# Altium integrated library Maxim Analog Filters.IntLib: 555 symbols (part 13 of 26)
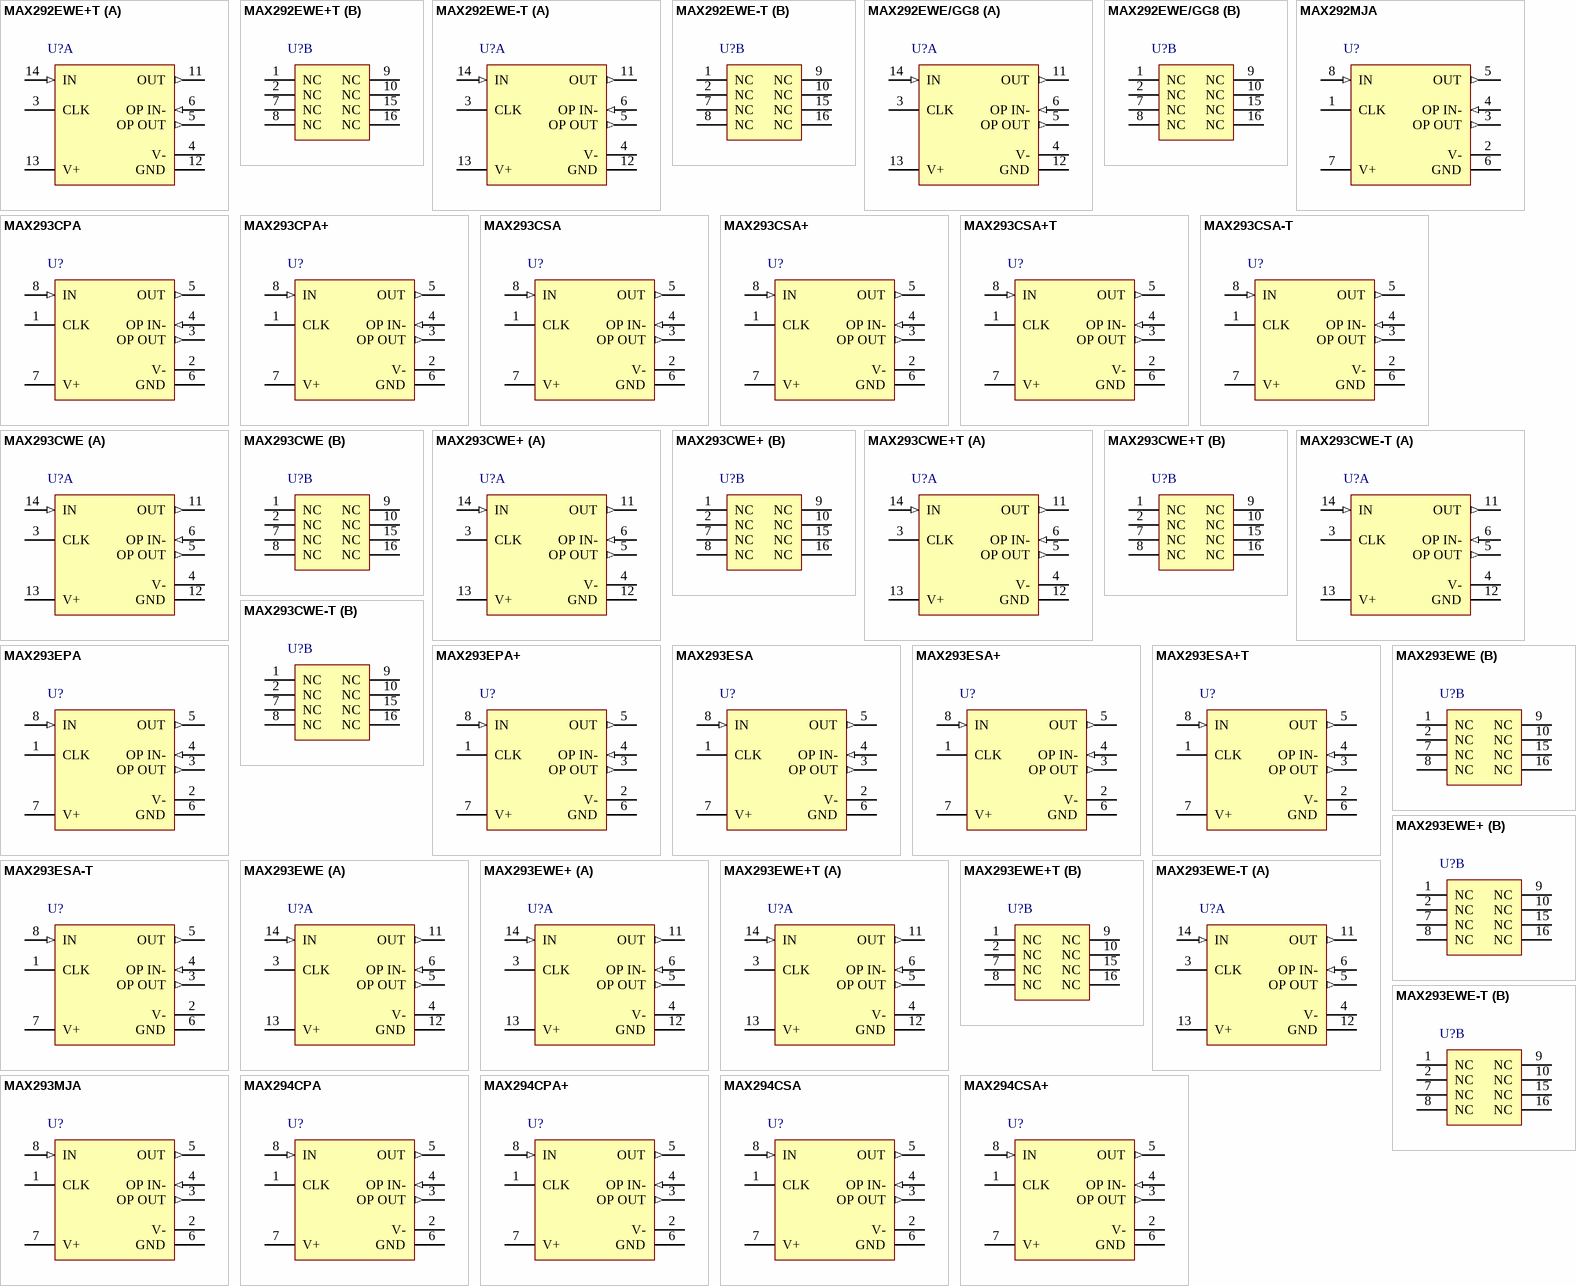
[diagram p29: symbols MAX292EWE+T to MAX294CSA+]

## MAX293CWE-T
designator U?
8th-Order Switched Capacitor Lowpass Filter, Elliptic, 1.5 Transition Ratio, 0 to 70 degC, 16-Pin SOIC (W16-1), Tape and Reel; Generic Part Number: MAX293; PartNumber: MAX293CWE-T; Filter Sections: 1; Order Per Filter Section: 8; Program Method: Clock; DatasheetVersion: Rev. 2; PackageVersion: Rev. F, 10/2012; PackageReference: W16-1; PackageDescription: 16-Pin Small-Outline IC, Wide (0.3in) (W16-1), Body 10.3 x 7.5 mm, Pitch 1.27 mm; Supplier 1: Mouser; Supplier Part Number 1: N/A; Filter Characteristic: Elliptic; Filter Class: Switched Cap; Filter Type: Lowpass; Packing: Tape and Reel; Mounting Technology: Surface Mount; Code_JEDEC: MS013; ComponentLink1Description: Manufacturer URL; ComponentLink1URL: http://www.maximintegrated.com/; ComponentLink2Description: Datasheet; ComponentLink2URL: http://datasheets.maximintegrated.com/en/ds/MAX293-MAX297.pdf; ComponentLink3Description: Package Specification; ComponentLink3URL: http://pdfserv.maximintegrated.com/package_dwgs/21-0042.PDF
footprint MAXM-W16-1_N (SOIC, 16-Leads, Body 10.3x7.5mm, Pitch 1.27mm, IPC Medium Density)
footprint MAXM-W16-1_L (SOIC, 16-Leads, Body 10.3x7.5mm, Pitch 1.27mm, IPC High Density)
footprint MAXM-W16-1_M (SOIC, 16-Leads, Body 10.3x7.5mm, Pitch 1.27mm, IPC Low Density)
part A pins: 3 CLK "Clock Input. Use internal or external clock.", 4 V- (power) "Negative Supply pin. Dual supplies: -2.375V to -5.500V. Single supplies: V- = 0V.", 5 OP OUT (out) "Uncommitted Op-Amp Output", 6 OP IN- (in) "Inverting Input to the uncommitted op amp. The noninverting op amp is internally tied to ground.", 11 OUT (out) "Filter Output", 12 GND (power) "Ground. In single-supply operation, GND must be biased to the mid-supply voltage level", 13 V+ (power) "Positive Supply pin. Dual supplies:+2.375V to +5.500V. Single supplies: +4.75V to +11.0V.", 14 IN (in) "Filter Input"
part B pins: 1 NC "No Connect", 2 NC "No Connect", 7 NC "No Connect", 8 NC "No Connect", 9 NC "No Connect", 10 NC "No Connect", 15 NC "No Connect", 16 NC "No Connect"

## MAX293EPA
designator U?
8th-Order Switched Capacitor Lowpass Filter, Elliptic, 1.5 Transition Ratio, -40 to 85 degC, 8-Pin DIP (P8-2); Generic Part Number: MAX293; PartNumber: MAX293EPA; Filter Sections: 1; Order Per Filter Section: 8; Program Method: Clock; DatasheetVersion: Rev. 2; PackageVersion: Rev. E, 04/2011; PackageReference: P8-2; PackageDescription: 8-Pin Plastic Dual-In-Line, Narrow (0.3in) (P8-2), Body 9.375 x 6.985 mm, Pitch 2.54 mm; Supplier 1: Mouser; Supplier Part Number 1: N/A; Filter Characteristic: Elliptic; Filter Class: Switched Cap; Filter Type: Lowpass; Mounting Technology: Through Hole; Code_JEDEC: MS001-XX; ComponentLink1Description: Manufacturer URL; ComponentLink1URL: http://www.maximintegrated.com/; ComponentLink2Description: Datasheet; ComponentLink2URL: http://datasheets.maximintegrated.com/en/ds/MAX293-MAX297.pdf; ComponentLink3Description: Package Specification; ComponentLink3URL: http://pdfserv.maximintegrated.com/package_dwgs/21-0043.PDF
footprint MAXM-P8-2 (DIP, 8-Leads, Body 9.375x6.985mm, Pitch 2.54mm)
pins: 1 CLK "Clock Input. Use internal or external clock.", 2 V- (power) "Negative Supply pin. Dual supplies: -2.375V to -5.5V. Single supplies: V- = 0V.", 3 OP OUT (out) "Uncommitted Op-Amp Output", 4 OP IN- (in) "Inverting Input to the uncommitted op amp. The noninverting op amp is internally tied to ground.", 5 OUT (out) "Filter Output", 6 GND (power) "Ground. In single-supply operation, GND must be biased to the mid-supply voltage level.", 7 V+ (power) "Positive Supply pin. Dual supplies: +2.375V to +5.5V. Single supplies: +4.75V to +11.0V.", 8 IN (in) "Filter Input"

## MAX293EPA+
designator U?
8th-Order Switched Capacitor Lowpass Filter, Elliptic, 1.5 Transition Ratio, -40 to 85 degC, 8-Pin DIP (P8+2), Pb-Free; Generic Part Number: MAX293; PartNumber: MAX293EPA+; Filter Sections: 1; Order Per Filter Section: 8; Program Method: Clock; DatasheetVersion: Rev. 2; PackageVersion: Rev. E, 04/2011; PackageReference: P8+2; PackageDescription: 8-Pin Plastic Dual-In-Line, Narrow (0.3in) (P8+2), Body 9.375 x 6.985 mm, Pitch 2.54 mm; Supplier 1: Digi-Key; Supplier Part Number 1: MAX293EPA+-ND; Supplier 2: Newark; Supplier Part Number 2: 67K4541; Supplier 3: Mouser; Supplier Part Number 3: 700-MAX293EPA; Filter Characteristic: Elliptic; Filter Class: Switched Cap; Filter Type: Lowpass; RoHS: Pb-Free; Mounting Technology: Through Hole; Code_JEDEC: MS001-XX; ComponentLink1Description: Manufacturer URL; ComponentLink1URL: http://www.maximintegrated.com/; ComponentLink2Description: Datasheet; ComponentLink2URL: http://datasheets.maximintegrated.com/en/ds/MAX293-MAX297.pdf; ComponentLink3Description: Package Specification; ComponentLink3URL: http://pdfserv.maximintegrated.com/package_dwgs/21-0043.PDF
footprint MAXM-P8+2 (DIP, 8-Leads, Body 9.375x6.985mm, Pitch 2.54mm)
pins: 1 CLK "Clock Input. Use internal or external clock.", 2 V- (power) "Negative Supply pin. Dual supplies: -2.375V to -5.5V. Single supplies: V- = 0V.", 3 OP OUT (out) "Uncommitted Op-Amp Output", 4 OP IN- (in) "Inverting Input to the uncommitted op amp. The noninverting op amp is internally tied to ground.", 5 OUT (out) "Filter Output", 6 GND (power) "Ground. In single-supply operation, GND must be biased to the mid-supply voltage level.", 7 V+ (power) "Positive Supply pin. Dual supplies: +2.375V to +5.5V. Single supplies: +4.75V to +11.0V.", 8 IN (in) "Filter Input"

## MAX293ESA
designator U?
8th-Order Switched Capacitor Lowpass Filter, Elliptic, 1.5 Transition Ratio, -40 to 85 degC, 8-Pin SOIC (S8-5); Generic Part Number: MAX293; PartNumber: MAX293ESA; Filter Sections: 1; Order Per Filter Section: 8; Program Method: Clock; DatasheetVersion: Rev. 2; PackageVersion: Rev. D, 10/2012; PackageReference: S8-5; PackageDescription: 8-Pin Small-Outline IC, Narrow (0.15in) (S8-5), Body 4.90 x 3.90 mm, Pitch 1.27 mm; Supplier 1: Mouser; Supplier Part Number 1: N/A; Filter Characteristic: Elliptic; Filter Class: Switched Cap; Filter Type: Lowpass; Mounting Technology: Surface Mount; Code_JEDEC: MS012; ComponentLink1Description: Manufacturer URL; ComponentLink1URL: http://www.maximintegrated.com/; ComponentLink2Description: Datasheet; ComponentLink2URL: http://datasheets.maximintegrated.com/en/ds/MAX293-MAX297.pdf; ComponentLink3Description: Package Specification; ComponentLink3URL: http://pdfserv.maximintegrated.com/package_dwgs/21-0041.PDF
footprint MAXM-S8-5_N (SOIC, 8-Leads, Body 4.9x3.9mm, Pitch 1.27mm, IPC Medium Density)
footprint MAXM-S8-5_L (SOIC, 8-Leads, Body 4.9x3.9mm, Pitch 1.27mm, IPC High Density)
footprint MAXM-S8-5_M (SOIC, 8-Leads, Body 4.9x3.9mm, Pitch 1.27mm, IPC Low Density)
pins: 1 CLK "Clock Input. Use internal or external clock.", 2 V- (power) "Negative Supply pin. Dual supplies: -2.375V to -5.500V. Single supplies: V- = 0V.", 3 OP OUT (out) "Uncommitted Op-Amp Output", 4 OP IN- (in) "Inverting Input to the uncommitted op amp. The noninverting op amp is internally tied to ground.", 5 OUT (out) "Filter Output", 6 GND (power) "Ground. In single-supply operation, GND must be biased to the mid-supply voltage level.", 7 V+ (power) "Positive Supply pin. Dual supplies: +2.375V to +5.500V. Single supplies: +4.75V to +11.0V.", 8 IN (in) "Filter Input"

## MAX293ESA+
designator U?
8th-Order Switched Capacitor Lowpass Filter, Elliptic, 1.5 Transition Ratio, -40 to 85 degC, 8-Pin SOIC (S8+5), Pb-Free; Generic Part Number: MAX293; PartNumber: MAX293ESA+; Filter Sections: 1; Order Per Filter Section: 8; Program Method: Clock; DatasheetVersion: Rev. 2; PackageVersion: Rev. D, 10/2012; PackageReference: S8+5; PackageDescription: 8-Pin Small-Outline IC, Narrow (0.15in) (S8+5), Body 4.90 x 3.90 mm, Pitch 1.27 mm; Supplier 1: Digi-Key; Supplier Part Number 1: MAX293ESA+-ND; Supplier 2: Mouser; Supplier Part Number 2: 700-MAX293ESA; Filter Characteristic: Elliptic; Filter Class: Switched Cap; Filter Type: Lowpass; RoHS: Pb-Free; Mounting Technology: Surface Mount; Code_JEDEC: MS012; ComponentLink1Description: Manufacturer URL; ComponentLink1URL: http://www.maximintegrated.com/; ComponentLink2Description: Datasheet; ComponentLink2URL: http://datasheets.maximintegrated.com/en/ds/MAX293-MAX297.pdf; ComponentLink3Description: Package Specification; ComponentLink3URL: http://pdfserv.maximintegrated.com/package_dwgs/21-0041.PDF
footprint MAXM-S8+5_N (SOIC, 8-Leads, Body 4.90x3.90mm, Pitch 1.27mm, IPC Medium Density)
footprint MAXM-S8+5_L (SOIC, 8-Leads, Body 4.90x3.90mm, Pitch 1.27mm, IPC High Density)
footprint MAXM-S8+5_M (SOIC, 8-Leads, Body 4.90x3.90mm, Pitch 1.27mm, IPC Low Density)
pins: 1 CLK "Clock Input. Use internal or external clock.", 2 V- (power) "Negative Supply pin. Dual supplies: -2.375V to -5.500V. Single supplies: V- = 0V.", 3 OP OUT (out) "Uncommitted Op-Amp Output", 4 OP IN- (in) "Inverting Input to the uncommitted op amp. The noninverting op amp is internally tied to ground.", 5 OUT (out) "Filter Output", 6 GND (power) "Ground. In single-supply operation, GND must be biased to the mid-supply voltage level.", 7 V+ (power) "Positive Supply pin. Dual supplies: +2.375V to +5.500V. Single supplies: +4.75V to +11.0V.", 8 IN (in) "Filter Input"

## MAX293ESA+T
designator U?
8th-Order Switched Capacitor Lowpass Filter, Elliptic, 1.5 Transition Ratio, -40 to 85 degC, 8-Pin SOIC (S8+5), Pb-Free, Tape and Reel; Generic Part Number: MAX293; PartNumber: MAX293ESA+T; Filter Sections: 1; Order Per Filter Section: 8; Program Method: Clock; DatasheetVersion: Rev. 2; PackageVersion: Rev. D, 10/2012; PackageReference: S8+5; PackageDescription: 8-Pin Small-Outline IC, Narrow (0.15in) (S8+5), Body 4.90 x 3.90 mm, Pitch 1.27 mm; Supplier 1: Digi-Key; Supplier Part Number 1: MAX293ESA+T-ND; Supplier 2: Mouser; Supplier Part Number 2: 700-MAX293ESAT; Filter Characteristic: Elliptic; Filter Class: Switched Cap; Filter Type: Lowpass; Packing: Tape and Reel; RoHS: Pb-Free; Mounting Technology: Surface Mount; Code_JEDEC: MS012; ComponentLink1Description: Manufacturer URL; ComponentLink1URL: http://www.maximintegrated.com/; ComponentLink2Description: Datasheet; ComponentLink2URL: http://datasheets.maximintegrated.com/en/ds/MAX293-MAX297.pdf; ComponentLink3Description: Package Specification; ComponentLink3URL: http://pdfserv.maximintegrated.com/package_dwgs/21-0041.PDF
footprint MAXM-S8+5_N (SOIC, 8-Leads, Body 4.90x3.90mm, Pitch 1.27mm, IPC Medium Density)
footprint MAXM-S8+5_L (SOIC, 8-Leads, Body 4.90x3.90mm, Pitch 1.27mm, IPC High Density)
footprint MAXM-S8+5_M (SOIC, 8-Leads, Body 4.90x3.90mm, Pitch 1.27mm, IPC Low Density)
pins: 1 CLK "Clock Input. Use internal or external clock.", 2 V- (power) "Negative Supply pin. Dual supplies: -2.375V to -5.500V. Single supplies: V- = 0V.", 3 OP OUT (out) "Uncommitted Op-Amp Output", 4 OP IN- (in) "Inverting Input to the uncommitted op amp. The noninverting op amp is internally tied to ground.", 5 OUT (out) "Filter Output", 6 GND (power) "Ground. In single-supply operation, GND must be biased to the mid-supply voltage level.", 7 V+ (power) "Positive Supply pin. Dual supplies: +2.375V to +5.500V. Single supplies: +4.75V to +11.0V.", 8 IN (in) "Filter Input"

## MAX293ESA-T
designator U?
8th-Order Switched Capacitor Lowpass Filter, Elliptic, 1.5 Transition Ratio, -40 to 85 degC, 8-Pin SOIC (S8-5), Tape and Reel; Generic Part Number: MAX293; PartNumber: MAX293ESA-T; Filter Sections: 1; Order Per Filter Section: 8; Program Method: Clock; DatasheetVersion: Rev. 2; PackageVersion: Rev. D, 10/2012; PackageReference: S8-5; PackageDescription: 8-Pin Small-Outline IC, Narrow (0.15in) (S8-5), Body 4.90 x 3.90 mm, Pitch 1.27 mm; Supplier 1: Mouser; Supplier Part Number 1: N/A; Filter Characteristic: Elliptic; Filter Class: Switched Cap; Filter Type: Lowpass; Packing: Tape and Reel; Mounting Technology: Surface Mount; Code_JEDEC: MS012; ComponentLink1Description: Manufacturer URL; ComponentLink1URL: http://www.maximintegrated.com/; ComponentLink2Description: Datasheet; ComponentLink2URL: http://datasheets.maximintegrated.com/en/ds/MAX293-MAX297.pdf; ComponentLink3Description: Package Specification; ComponentLink3URL: http://pdfserv.maximintegrated.com/package_dwgs/21-0041.PDF
footprint MAXM-S8-5_N (SOIC, 8-Leads, Body 4.9x3.9mm, Pitch 1.27mm, IPC Medium Density)
footprint MAXM-S8-5_L (SOIC, 8-Leads, Body 4.9x3.9mm, Pitch 1.27mm, IPC High Density)
footprint MAXM-S8-5_M (SOIC, 8-Leads, Body 4.9x3.9mm, Pitch 1.27mm, IPC Low Density)
pins: 1 CLK "Clock Input. Use internal or external clock.", 2 V- (power) "Negative Supply pin. Dual supplies: -2.375V to -5.500V. Single supplies: V- = 0V.", 3 OP OUT (out) "Uncommitted Op-Amp Output", 4 OP IN- (in) "Inverting Input to the uncommitted op amp. The noninverting op amp is internally tied to ground.", 5 OUT (out) "Filter Output", 6 GND (power) "Ground. In single-supply operation, GND must be biased to the mid-supply voltage level.", 7 V+ (power) "Positive Supply pin. Dual supplies: +2.375V to +5.500V. Single supplies: +4.75V to +11.0V.", 8 IN (in) "Filter Input"

## MAX293EWE
designator U?
8th-Order Switched Capacitor Lowpass Filter, Elliptic, 1.5 Transition Ratio, -40 to 85 degC, 16-Pin SOIC (W16-1); Generic Part Number: MAX293; PartNumber: MAX293EWE; Filter Sections: 1; Order Per Filter Section: 8; Program Method: Clock; DatasheetVersion: Rev. 2; PackageVersion: Rev. F, 10/2012; PackageReference: W16-1; PackageDescription: 16-Pin Small-Outline IC, Wide (0.3in) (W16-1), Body 10.3 x 7.5 mm, Pitch 1.27 mm; Supplier 1: Mouser; Supplier Part Number 1: N/A; Filter Characteristic: Elliptic; Filter Class: Switched Cap; Filter Type: Lowpass; Mounting Technology: Surface Mount; Code_JEDEC: MS013; ComponentLink1Description: Manufacturer URL; ComponentLink1URL: http://www.maximintegrated.com/; ComponentLink2Description: Datasheet; ComponentLink2URL: http://datasheets.maximintegrated.com/en/ds/MAX293-MAX297.pdf; ComponentLink3Description: Package Specification; ComponentLink3URL: http://pdfserv.maximintegrated.com/package_dwgs/21-0042.PDF
footprint MAXM-W16-1_N (SOIC, 16-Leads, Body 10.3x7.5mm, Pitch 1.27mm, IPC Medium Density)
footprint MAXM-W16-1_L (SOIC, 16-Leads, Body 10.3x7.5mm, Pitch 1.27mm, IPC High Density)
footprint MAXM-W16-1_M (SOIC, 16-Leads, Body 10.3x7.5mm, Pitch 1.27mm, IPC Low Density)
part A pins: 3 CLK "Clock Input. Use internal or external clock.", 4 V- (power) "Negative Supply pin. Dual supplies: -2.375V to -5.500V. Single supplies: V- = 0V.", 5 OP OUT (out) "Uncommitted Op-Amp Output", 6 OP IN- (in) "Inverting Input to the uncommitted op amp. The noninverting op amp is internally tied to ground.", 11 OUT (out) "Filter Output", 12 GND (power) "Ground. In single-supply operation, GND must be biased to the mid-supply voltage level", 13 V+ (power) "Positive Supply pin. Dual supplies:+2.375V to +5.500V. Single supplies: +4.75V to +11.0V.", 14 IN (in) "Filter Input"
part B pins: 1 NC "No Connect", 2 NC "No Connect", 7 NC "No Connect", 8 NC "No Connect", 9 NC "No Connect", 10 NC "No Connect", 15 NC "No Connect", 16 NC "No Connect"

## MAX293EWE+
designator U?
8th-Order Switched Capacitor Lowpass Filter, Elliptic, 1.5 Transition Ratio, -40 to 85 degC, 16-Pin SOIC (W16+1), Pb-Free; Generic Part Number: MAX293; PartNumber: MAX293EWE+; Filter Sections: 1; Order Per Filter Section: 8; Program Method: Clock; DatasheetVersion: Rev. 2; PackageVersion: Rev. F, 10/2012; PackageReference: W16+1; PackageDescription: 16-Pin Small-Outline IC, Wide (0.3in) (W16+1), Body 10.3 x 7.5 mm, Pitch 1.27 mm; Supplier 1: Digi-Key; Supplier Part Number 1: MAX293EWE+-ND; Supplier 2: Mouser; Supplier Part Number 2: 700-MAX293EWE; Filter Characteristic: Elliptic; Filter Class: Switched Cap; Filter Type: Lowpass; RoHS: Pb-Free; Mounting Technology: Surface Mount; Code_JEDEC: MS013; ComponentLink1Description: Manufacturer URL; ComponentLink1URL: http://www.maximintegrated.com/; ComponentLink2Description: Datasheet; ComponentLink2URL: http://datasheets.maximintegrated.com/en/ds/MAX293-MAX297.pdf; ComponentLink3Description: Package Specification; ComponentLink3URL: http://pdfserv.maximintegrated.com/package_dwgs/21-0042.PDF
footprint MAXM-W16+1_N (SOIC, 16-Leads, Body 10.3x7.5mm, Pitch 1.27mm, IPC Medium Density)
footprint MAXM-W16+1_L (SOIC, 16-Leads, Body 10.3x7.5mm, Pitch 1.27mm, IPC High Density)
footprint MAXM-W16+1_M (SOIC, 16-Leads, Body 10.3x7.5mm, Pitch 1.27mm, IPC Low Density)
part A pins: 3 CLK "Clock Input. Use internal or external clock.", 4 V- (power) "Negative Supply pin. Dual supplies: -2.375V to -5.500V. Single supplies: V- = 0V.", 5 OP OUT (out) "Uncommitted Op-Amp Output", 6 OP IN- (in) "Inverting Input to the uncommitted op amp. The noninverting op amp is internally tied to ground.", 11 OUT (out) "Filter Output", 12 GND (power) "Ground. In single-supply operation, GND must be biased to the mid-supply voltage level", 13 V+ (power) "Positive Supply pin. Dual supplies:+2.375V to +5.500V. Single supplies: +4.75V to +11.0V.", 14 IN (in) "Filter Input"
part B pins: 1 NC "No Connect", 2 NC "No Connect", 7 NC "No Connect", 8 NC "No Connect", 9 NC "No Connect", 10 NC "No Connect", 15 NC "No Connect", 16 NC "No Connect"

## MAX293EWE+T
designator U?
8th-Order Switched Capacitor Lowpass Filter, Elliptic, 1.5 Transition Ratio, -40 to 85 degC, 16-Pin SOIC (W16+1), Pb-Free, Tape and Reel; Generic Part Number: MAX293; PartNumber: MAX293EWE+T; Filter Sections: 1; Order Per Filter Section: 8; Program Method: Clock; DatasheetVersion: Rev. 2; PackageVersion: Rev. F, 10/2012; PackageReference: W16+1; PackageDescription: 16-Pin Small-Outline IC, Wide (0.3in) (W16+1), Body 10.3 x 7.5 mm, Pitch 1.27 mm; Supplier 1: Digi-Key; Supplier Part Number 1: MAX293EWE+T-ND; Supplier 2: Mouser; Supplier Part Number 2: 700-MAX293EWET; Filter Characteristic: Elliptic; Filter Class: Switched Cap; Filter Type: Lowpass; Packing: Tape and Reel; RoHS: Pb-Free; Mounting Technology: Surface Mount; Code_JEDEC: MS013; ComponentLink1Description: Manufacturer URL; ComponentLink1URL: http://www.maximintegrated.com/; ComponentLink2Description: Datasheet; ComponentLink2URL: http://datasheets.maximintegrated.com/en/ds/MAX293-MAX297.pdf; ComponentLink3Description: Package Specification; ComponentLink3URL: http://pdfserv.maximintegrated.com/package_dwgs/21-0042.PDF
footprint MAXM-W16+1_N (SOIC, 16-Leads, Body 10.3x7.5mm, Pitch 1.27mm, IPC Medium Density)
footprint MAXM-W16+1_L (SOIC, 16-Leads, Body 10.3x7.5mm, Pitch 1.27mm, IPC High Density)
footprint MAXM-W16+1_M (SOIC, 16-Leads, Body 10.3x7.5mm, Pitch 1.27mm, IPC Low Density)
part A pins: 3 CLK "Clock Input. Use internal or external clock.", 4 V- (power) "Negative Supply pin. Dual supplies: -2.375V to -5.500V. Single supplies: V- = 0V.", 5 OP OUT (out) "Uncommitted Op-Amp Output", 6 OP IN- (in) "Inverting Input to the uncommitted op amp. The noninverting op amp is internally tied to ground.", 11 OUT (out) "Filter Output", 12 GND (power) "Ground. In single-supply operation, GND must be biased to the mid-supply voltage level", 13 V+ (power) "Positive Supply pin. Dual supplies:+2.375V to +5.500V. Single supplies: +4.75V to +11.0V.", 14 IN (in) "Filter Input"
part B pins: 1 NC "No Connect", 2 NC "No Connect", 7 NC "No Connect", 8 NC "No Connect", 9 NC "No Connect", 10 NC "No Connect", 15 NC "No Connect", 16 NC "No Connect"

## MAX293EWE-T
designator U?
8th-Order Switched Capacitor Lowpass Filter, Elliptic, 1.5 Transition Ratio, -40 to 85 degC, 16-Pin SOIC (W16-1), Tape and Reel; Generic Part Number: MAX293; PartNumber: MAX293EWE-T; Filter Sections: 1; Order Per Filter Section: 8; Program Method: Clock; DatasheetVersion: Rev. 2; PackageVersion: Rev. F, 10/2012; PackageReference: W16-1; PackageDescription: 16-Pin Small-Outline IC, Wide (0.3in) (W16-1), Body 10.3 x 7.5 mm, Pitch 1.27 mm; Supplier 1: Mouser; Supplier Part Number 1: N/A; Filter Characteristic: Elliptic; Filter Class: Switched Cap; Filter Type: Lowpass; Packing: Tape and Reel; Mounting Technology: Surface Mount; Code_JEDEC: MS013; ComponentLink1Description: Manufacturer URL; ComponentLink1URL: http://www.maximintegrated.com/; ComponentLink2Description: Datasheet; ComponentLink2URL: http://datasheets.maximintegrated.com/en/ds/MAX293-MAX297.pdf; ComponentLink3Description: Package Specification; ComponentLink3URL: http://pdfserv.maximintegrated.com/package_dwgs/21-0042.PDF
footprint MAXM-W16-1_N (SOIC, 16-Leads, Body 10.3x7.5mm, Pitch 1.27mm, IPC Medium Density)
footprint MAXM-W16-1_L (SOIC, 16-Leads, Body 10.3x7.5mm, Pitch 1.27mm, IPC High Density)
footprint MAXM-W16-1_M (SOIC, 16-Leads, Body 10.3x7.5mm, Pitch 1.27mm, IPC Low Density)
part A pins: 3 CLK "Clock Input. Use internal or external clock.", 4 V- (power) "Negative Supply pin. Dual supplies: -2.375V to -5.500V. Single supplies: V- = 0V.", 5 OP OUT (out) "Uncommitted Op-Amp Output", 6 OP IN- (in) "Inverting Input to the uncommitted op amp. The noninverting op amp is internally tied to ground.", 11 OUT (out) "Filter Output", 12 GND (power) "Ground. In single-supply operation, GND must be biased to the mid-supply voltage level", 13 V+ (power) "Positive Supply pin. Dual supplies:+2.375V to +5.500V. Single supplies: +4.75V to +11.0V.", 14 IN (in) "Filter Input"
part B pins: 1 NC "No Connect", 2 NC "No Connect", 7 NC "No Connect", 8 NC "No Connect", 9 NC "No Connect", 10 NC "No Connect", 15 NC "No Connect", 16 NC "No Connect"

## MAX293MJA
designator U?
8th-Order Switched Capacitor Lowpass Filter, Elliptic, 1.5 Transition Ratio, -55 to 125 degC, 8-Pin DIP (J8-2); Generic Part Number: MAX293; PartNumber: MAX293MJA; Filter Sections: 1; Order Per Filter Section: 8; Program Method: Clock; DatasheetVersion: Rev. 2; PackageVersion: Rev. B, 05/2011; PackageReference: J8-2; PackageDescription: 8-Pin Ceramic Dual-In-Line, Narrow (0.3in) (J8-2), Body 10.29 x 6.73 mm, Pitch 2.54 mm; Supplier 1: Mouser; Supplier Part Number 1: N/A; Filter Characteristic: Elliptic; Filter Class: Switched Cap; Filter Type: Lowpass; Mounting Technology: Through Hole; ComponentLink1Description: Manufacturer URL; ComponentLink1URL: http://www.maximintegrated.com/; ComponentLink2Description: Datasheet; ComponentLink2URL: http://datasheets.maximintegrated.com/en/ds/MAX293-MAX297.pdf; ComponentLink3Description: Package Specification; ComponentLink3URL: http://pdfserv.maximintegrated.com/package_dwgs/21-0045.PDF
footprint MAXM-J8-2 (DIP, 8-Leads, Body 10.29x6.73mm, Pitch 2.54mm)
pins: 1 CLK "Clock Input. Use internal or external clock.", 2 V- (power) "Negative Supply pin. Dual supplies: -2.375V to -5.5V. Single supplies: V- = 0V.", 3 OP OUT (out) "Uncommitted Op-Amp Output", 4 OP IN- (in) "Inverting Input to the uncommitted op amp. The noninverting op amp is internally tied to ground.", 5 OUT (out) "Filter Output", 6 GND (power) "Ground. In single-supply operation, GND must be biased to the mid-supply voltage level.", 7 V+ (power) "Positive Supply pin. Dual supplies: +2.375V to +5.5V. Single supplies: +4.75V to +11.0V.", 8 IN (in) "Filter Input"

## MAX294CPA
designator U?
8th-Order Switched Capacitor Lowpass Filter, Elliptic, 1.2 Transition Ratio, 0 to 70 degC, 8-Pin DIP (P8-2); Generic Part Number: MAX294; PartNumber: MAX294CPA; Filter Sections: 1; Order Per Filter Section: 8; Program Method: Clock; DatasheetVersion: Rev. 2; PackageVersion: Rev. E, 04/2011; PackageReference: P8-2; PackageDescription: 8-Pin Plastic Dual-In-Line, Narrow (0.3in) (P8-2), Body 9.375 x 6.985 mm, Pitch 2.54 mm; Supplier 1: Mouser; Supplier Part Number 1: N/A; Filter Characteristic: Elliptic; Filter Class: Switched Cap; Filter Type: Lowpass; Mounting Technology: Through Hole; Code_JEDEC: MS001-XX; ComponentLink1Description: Manufacturer URL; ComponentLink1URL: http://www.maximintegrated.com/; ComponentLink2Description: Datasheet; ComponentLink2URL: http://datasheets.maximintegrated.com/en/ds/MAX293-MAX297.pdf; ComponentLink3Description: Package Specification; ComponentLink3URL: http://pdfserv.maximintegrated.com/package_dwgs/21-0043.PDF
footprint MAXM-P8-2 (DIP, 8-Leads, Body 9.375x6.985mm, Pitch 2.54mm)
pins: 1 CLK "Clock Input. Use internal or external clock.", 2 V- (power) "Negative Supply pin. Dual supplies: -2.375V to -5.5V. Single supplies: V- = 0V.", 3 OP OUT (out) "Uncommitted Op-Amp Output", 4 OP IN- (in) "Inverting Input to the uncommitted op amp. The noninverting op amp is internally tied to ground.", 5 OUT (out) "Filter Output", 6 GND (power) "Ground. In single-supply operation, GND must be biased to the mid-supply voltage level.", 7 V+ (power) "Positive Supply pin. Dual supplies: +2.375V to +5.5V. Single supplies: +4.75V to +11.0V.", 8 IN (in) "Filter Input"

## MAX294CPA+
designator U?
8th-Order Switched Capacitor Lowpass Filter, Elliptic, 1.2 Transition Ratio, 0 to 70 degC, 8-Pin DIP (P8+2), Pb-Free; Generic Part Number: MAX294; PartNumber: MAX294CPA+; Filter Sections: 1; Order Per Filter Section: 8; Program Method: Clock; DatasheetVersion: Rev. 2; PackageVersion: Rev. E, 04/2011; PackageReference: P8+2; PackageDescription: 8-Pin Plastic Dual-In-Line, Narrow (0.3in) (P8+2), Body 9.375 x 6.985 mm, Pitch 2.54 mm; Supplier 1: Digi-Key; Supplier Part Number 1: MAX294CPA+-ND; Supplier 2: Mouser; Supplier Part Number 2: 700-MAX294CPA+; Filter Characteristic: Elliptic; Filter Class: Switched Cap; Filter Type: Lowpass; RoHS: Pb-Free; Mounting Technology: Through Hole; Code_JEDEC: MS001-XX; ComponentLink1Description: Manufacturer URL; ComponentLink1URL: http://www.maximintegrated.com/; ComponentLink2Description: Datasheet; ComponentLink2URL: http://datasheets.maximintegrated.com/en/ds/MAX293-MAX297.pdf; ComponentLink3Description: Package Specification; ComponentLink3URL: http://pdfserv.maximintegrated.com/package_dwgs/21-0043.PDF
footprint MAXM-P8+2 (DIP, 8-Leads, Body 9.375x6.985mm, Pitch 2.54mm)
pins: 1 CLK "Clock Input. Use internal or external clock.", 2 V- (power) "Negative Supply pin. Dual supplies: -2.375V to -5.5V. Single supplies: V- = 0V.", 3 OP OUT (out) "Uncommitted Op-Amp Output", 4 OP IN- (in) "Inverting Input to the uncommitted op amp. The noninverting op amp is internally tied to ground.", 5 OUT (out) "Filter Output", 6 GND (power) "Ground. In single-supply operation, GND must be biased to the mid-supply voltage level.", 7 V+ (power) "Positive Supply pin. Dual supplies: +2.375V to +5.5V. Single supplies: +4.75V to +11.0V.", 8 IN (in) "Filter Input"

## MAX294CSA
designator U?
8th-Order Switched Capacitor Lowpass Filter, Elliptic, 1.2 Transition Ratio, 0 to 70 degC, 8-Pin SOIC (S8-5); Generic Part Number: MAX294; PartNumber: MAX294CSA; Filter Sections: 1; Order Per Filter Section: 8; Program Method: Clock; DatasheetVersion: Rev. 2; PackageVersion: Rev. D, 10/2012; PackageReference: S8-5; PackageDescription: 8-Pin Small-Outline IC, Narrow (0.15in) (S8-5), Body 4.90 x 3.90 mm, Pitch 1.27 mm; Supplier 1: Mouser; Supplier Part Number 1: N/A; Filter Characteristic: Elliptic; Filter Class: Switched Cap; Filter Type: Lowpass; Mounting Technology: Surface Mount; Code_JEDEC: MS012; ComponentLink1Description: Manufacturer URL; ComponentLink1URL: http://www.maximintegrated.com/; ComponentLink2Description: Datasheet; ComponentLink2URL: http://datasheets.maximintegrated.com/en/ds/MAX293-MAX297.pdf; ComponentLink3Description: Package Specification; ComponentLink3URL: http://pdfserv.maximintegrated.com/package_dwgs/21-0041.PDF
footprint MAXM-S8-5_N (SOIC, 8-Leads, Body 4.9x3.9mm, Pitch 1.27mm, IPC Medium Density)
footprint MAXM-S8-5_L (SOIC, 8-Leads, Body 4.9x3.9mm, Pitch 1.27mm, IPC High Density)
footprint MAXM-S8-5_M (SOIC, 8-Leads, Body 4.9x3.9mm, Pitch 1.27mm, IPC Low Density)
pins: 1 CLK "Clock Input. Use internal or external clock.", 2 V- (power) "Negative Supply pin. Dual supplies: -2.375V to -5.5V. Single supplies: V- = 0V.", 3 OP OUT (out) "Uncommitted Op-Amp Output", 4 OP IN- (in) "Inverting Input to the uncommitted op amp. The noninverting op amp is internally tied to ground.", 5 OUT (out) "Filter Output", 6 GND (power) "Ground. In single-supply operation, GND must be biased to the mid-supply voltage level.", 7 V+ (power) "Positive Supply pin. Dual supplies: +2.375V to +5.5V. Single supplies: +4.75V to +11.0V.", 8 IN (in) "Filter Input"

## MAX294CSA+
designator U?
8th-Order Switched Capacitor Lowpass Filter, Elliptic, 1.2 Transition Ratio, 0 to 70 degC, 8-Pin SOIC (S8+5), Pb-Free; Generic Part Number: MAX294; PartNumber: MAX294CSA+; Filter Sections: 1; Order Per Filter Section: 8; Program Method: Clock; DatasheetVersion: Rev. 2; PackageVersion: Rev. D, 10/2012; PackageReference: S8+5; PackageDescription: 8-Pin Small-Outline IC, Narrow (0.15in) (S8+5), Body 4.90 x 3.90 mm, Pitch 1.27 mm; Supplier 1: Digi-Key; Supplier Part Number 1: MAX294CSA+-ND; Supplier 2: Mouser; Supplier Part Number 2: 700-MAX294CSA+; Filter Characteristic: Elliptic; Filter Class: Switched Cap; Filter Type: Lowpass; RoHS: Pb-Free; Mounting Technology: Surface Mount; Code_JEDEC: MS012; ComponentLink1Description: Manufacturer URL; ComponentLink1URL: http://www.maximintegrated.com/; ComponentLink2Description: Datasheet; ComponentLink2URL: http://datasheets.maximintegrated.com/en/ds/MAX293-MAX297.pdf; ComponentLink3Description: Package Specification; ComponentLink3URL: http://pdfserv.maximintegrated.com/package_dwgs/21-0041.PDF
footprint MAXM-S8+5_N (SOIC, 8-Leads, Body 4.90x3.90mm, Pitch 1.27mm, IPC Medium Density)
footprint MAXM-S8+5_L (SOIC, 8-Leads, Body 4.90x3.90mm, Pitch 1.27mm, IPC High Density)
footprint MAXM-S8+5_M (SOIC, 8-Leads, Body 4.90x3.90mm, Pitch 1.27mm, IPC Low Density)
pins: 1 CLK "Clock Input. Use internal or external clock.", 2 V- (power) "Negative Supply pin. Dual supplies: -2.375V to -5.5V. Single supplies: V- = 0V.", 3 OP OUT (out) "Uncommitted Op-Amp Output", 4 OP IN- (in) "Inverting Input to the uncommitted op amp. The noninverting op amp is internally tied to ground.", 5 OUT (out) "Filter Output", 6 GND (power) "Ground. In single-supply operation, GND must be biased to the mid-supply voltage level.", 7 V+ (power) "Positive Supply pin. Dual supplies: +2.375V to +5.5V. Single supplies: +4.75V to +11.0V.", 8 IN (in) "Filter Input"

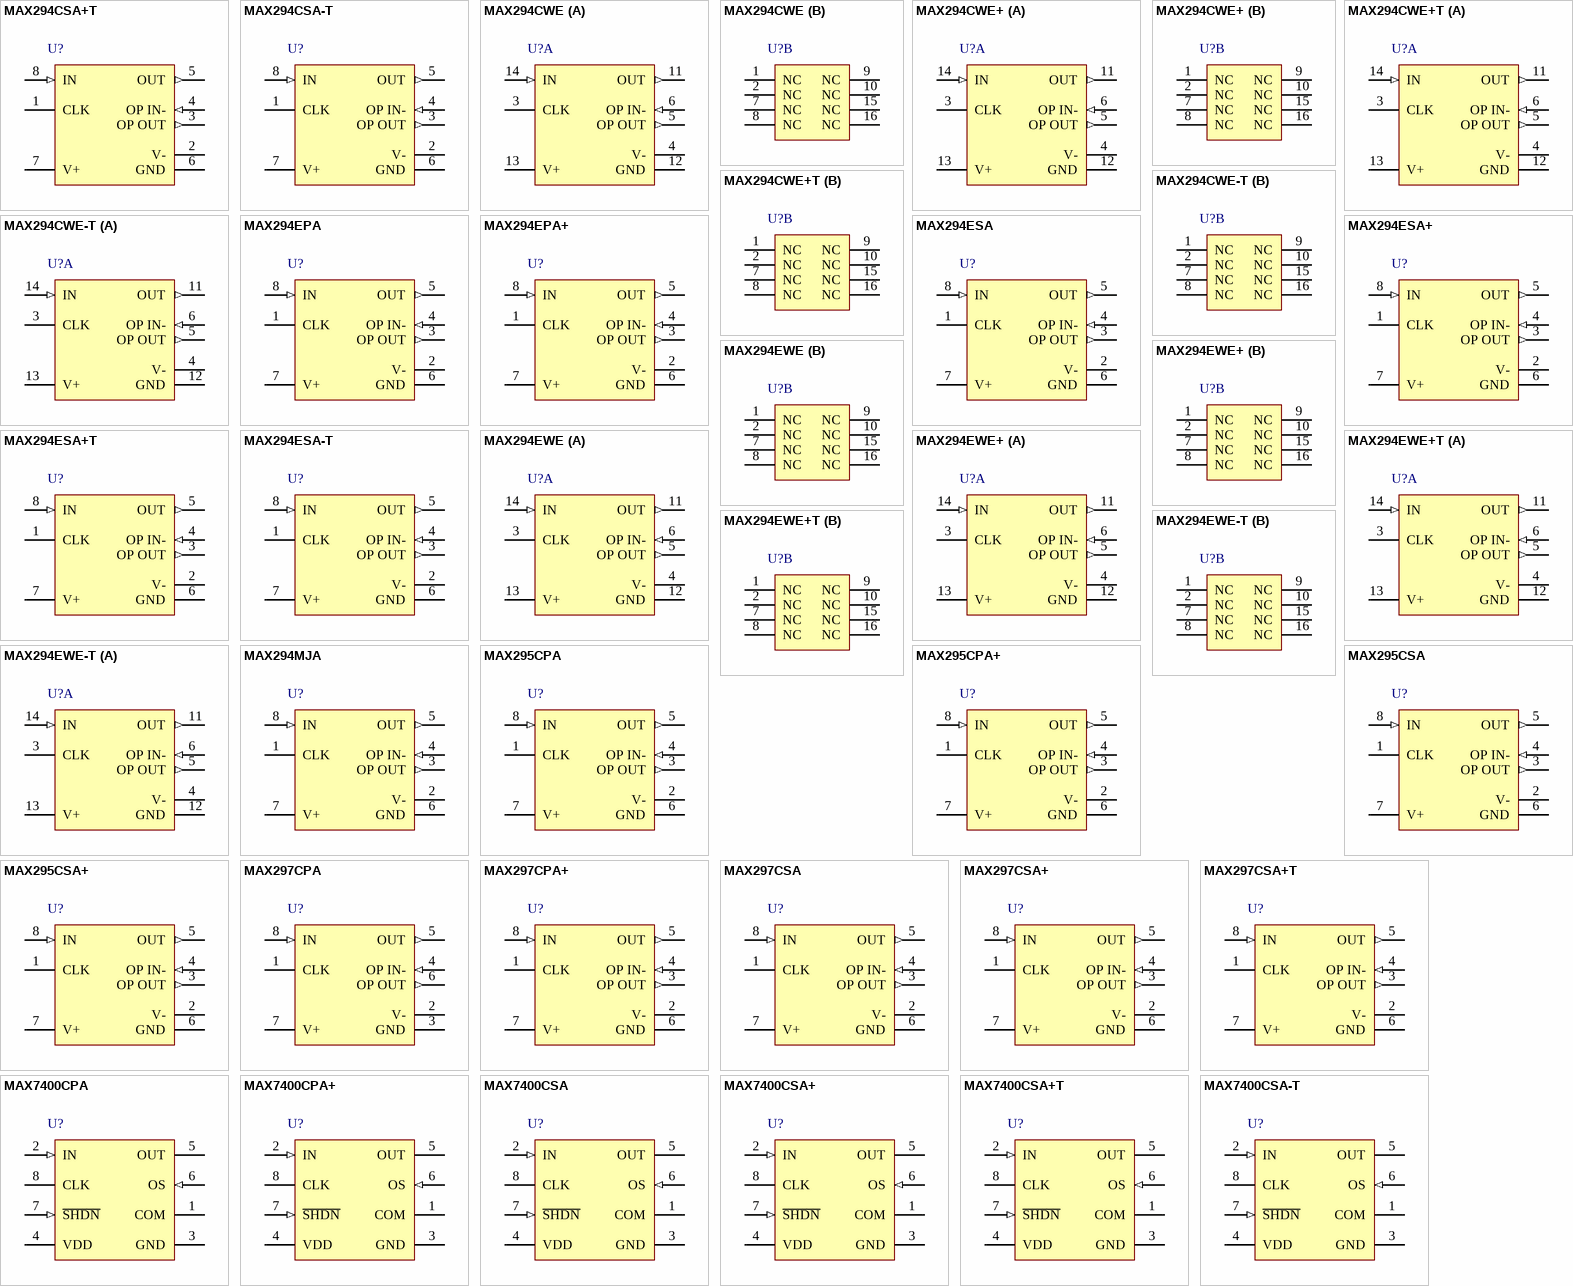
[diagram p10: symbols MAX294CSA+T to MAX7400CSA-T]

## MAX294CSA+T
designator U?
8th-Order Switched Capacitor Lowpass Filter, Elliptic, 1.2 Transition Ratio, 0 to 70 degC, 8-Pin SOIC (S8+5), Pb-Free, Tape and Reel; Generic Part Number: MAX294; PartNumber: MAX294CSA+T; Filter Sections: 1; Order Per Filter Section: 8; Program Method: Clock; DatasheetVersion: Rev. 2; PackageVersion: Rev. D, 10/2012; PackageReference: S8+5; PackageDescription: 8-Pin Small-Outline IC, Narrow (0.15in) (S8+5), Body 4.90 x 3.90 mm, Pitch 1.27 mm; Supplier 1: Digi-Key; Supplier Part Number 1: MAX294CSA+T-ND; Supplier 2: Mouser; Supplier Part Number 2: 700-MAX294CSAT; Filter Characteristic: Elliptic; Filter Class: Switched Cap; Filter Type: Lowpass; Packing: Tape and Reel; RoHS: Pb-Free; Mounting Technology: Surface Mount; Code_JEDEC: MS012; ComponentLink1Description: Manufacturer URL; ComponentLink1URL: http://www.maximintegrated.com/; ComponentLink2Description: Datasheet; ComponentLink2URL: http://datasheets.maximintegrated.com/en/ds/MAX293-MAX297.pdf; ComponentLink3Description: Package Specification; ComponentLink3URL: http://pdfserv.maximintegrated.com/package_dwgs/21-0041.PDF
footprint MAXM-S8+5_N (SOIC, 8-Leads, Body 4.90x3.90mm, Pitch 1.27mm, IPC Medium Density)
footprint MAXM-S8+5_L (SOIC, 8-Leads, Body 4.90x3.90mm, Pitch 1.27mm, IPC High Density)
footprint MAXM-S8+5_M (SOIC, 8-Leads, Body 4.90x3.90mm, Pitch 1.27mm, IPC Low Density)
pins: 1 CLK "Clock Input. Use internal or external clock.", 2 V- (power) "Negative Supply pin. Dual supplies: -2.375V to -5.5V. Single supplies: V- = 0V.", 3 OP OUT (out) "Uncommitted Op-Amp Output", 4 OP IN- (in) "Inverting Input to the uncommitted op amp. The noninverting op amp is internally tied to ground.", 5 OUT (out) "Filter Output", 6 GND (power) "Ground. In single-supply operation, GND must be biased to the mid-supply voltage level.", 7 V+ (power) "Positive Supply pin. Dual supplies: +2.375V to +5.5V. Single supplies: +4.75V to +11.0V.", 8 IN (in) "Filter Input"

## MAX294CSA-T
designator U?
8th-Order Switched Capacitor Lowpass Filter, Elliptic, 1.2 Transition Ratio, 0 to 70 degC, 8-Pin SOIC (S8-5), Tape and Reel; Generic Part Number: MAX294; PartNumber: MAX294CSA-T; Filter Sections: 1; Order Per Filter Section: 8; Program Method: Clock; DatasheetVersion: Rev. 2; PackageVersion: Rev. D, 10/2012; PackageReference: S8-5; PackageDescription: 8-Pin Small-Outline IC, Narrow (0.15in) (S8-5), Body 4.90 x 3.90 mm, Pitch 1.27 mm; Supplier 1: Mouser; Supplier Part Number 1: N/A; Filter Characteristic: Elliptic; Filter Class: Switched Cap; Filter Type: Lowpass; Packing: Tape and Reel; Mounting Technology: Surface Mount; Code_JEDEC: MS012; ComponentLink1Description: Manufacturer URL; ComponentLink1URL: http://www.maximintegrated.com/; ComponentLink2Description: Datasheet; ComponentLink2URL: http://datasheets.maximintegrated.com/en/ds/MAX293-MAX297.pdf; ComponentLink3Description: Package Specification; ComponentLink3URL: http://pdfserv.maximintegrated.com/package_dwgs/21-0041.PDF
footprint MAXM-S8-5_N (SOIC, 8-Leads, Body 4.9x3.9mm, Pitch 1.27mm, IPC Medium Density)
footprint MAXM-S8-5_L (SOIC, 8-Leads, Body 4.9x3.9mm, Pitch 1.27mm, IPC High Density)
footprint MAXM-S8-5_M (SOIC, 8-Leads, Body 4.9x3.9mm, Pitch 1.27mm, IPC Low Density)
pins: 1 CLK "Clock Input. Use internal or external clock.", 2 V- (power) "Negative Supply pin. Dual supplies: -2.375V to -5.5V. Single supplies: V- = 0V.", 3 OP OUT (out) "Uncommitted Op-Amp Output", 4 OP IN- (in) "Inverting Input to the uncommitted op amp. The noninverting op amp is internally tied to ground.", 5 OUT (out) "Filter Output", 6 GND (power) "Ground. In single-supply operation, GND must be biased to the mid-supply voltage level.", 7 V+ (power) "Positive Supply pin. Dual supplies: +2.375V to +5.5V. Single supplies: +4.75V to +11.0V.", 8 IN (in) "Filter Input"

## MAX294CWE
designator U?
8th-Order Switched Capacitor Lowpass Filter, Elliptic, 1.2 Transition Ratio, 0 to 70 degC, 16-Pin SOIC (W16-1); Generic Part Number: MAX294; PartNumber: MAX294CWE; Filter Sections: 1; Order Per Filter Section: 8; Program Method: Clock; DatasheetVersion: Rev. 2; PackageVersion: Rev. F, 10/2012; PackageReference: W16-1; PackageDescription: 16-Pin Small-Outline IC, Wide (0.3in) (W16-1), Body 10.3 x 7.5 mm, Pitch 1.27 mm; Supplier 1: Mouser; Supplier Part Number 1: N/A; Filter Characteristic: Elliptic; Filter Class: Switched Cap; Filter Type: Lowpass; Mounting Technology: Surface Mount; Code_JEDEC: MS013; ComponentLink1Description: Manufacturer URL; ComponentLink1URL: http://www.maximintegrated.com/; ComponentLink2Description: Datasheet; ComponentLink2URL: http://datasheets.maximintegrated.com/en/ds/MAX293-MAX297.pdf; ComponentLink3Description: Package Specification; ComponentLink3URL: http://pdfserv.maximintegrated.com/package_dwgs/21-0042.PDF
footprint MAXM-W16-1_N (SOIC, 16-Leads, Body 10.3x7.5mm, Pitch 1.27mm, IPC Medium Density)
footprint MAXM-W16-1_L (SOIC, 16-Leads, Body 10.3x7.5mm, Pitch 1.27mm, IPC High Density)
footprint MAXM-W16-1_M (SOIC, 16-Leads, Body 10.3x7.5mm, Pitch 1.27mm, IPC Low Density)
part A pins: 3 CLK "Clock Input. Use internal or external clock.", 4 V- (power) "Negative Supply pin. Dual supplies: -2.375V to -5.500V. Single supplies: V- = 0V.", 5 OP OUT (out) "Uncommitted Op-Amp Output", 6 OP IN- (in) "Inverting Input to the uncommitted op amp. The noninverting op amp is internally tied to ground.", 11 OUT (out) "Filter Output", 12 GND (power) "Ground. In single-supply operation, GND must be biased to the mid-supply voltage level", 13 V+ (power) "Positive Supply pin. Dual supplies:+2.375V to +5.500V. Single supplies: +4.75V to +11.0V.", 14 IN (in) "Filter Input"
part B pins: 1 NC "No Connect", 2 NC "No Connect", 7 NC "No Connect", 8 NC "No Connect", 9 NC "No Connect", 10 NC "No Connect", 15 NC "No Connect", 16 NC "No Connect"

## MAX294CWE+
designator U?
8th-Order Switched Capacitor Lowpass Filter, Elliptic, 1.2 Transition Ratio, 0 to 70 degC, 16-Pin SOIC (W16+1), Pb-Free; Generic Part Number: MAX294; PartNumber: MAX294CWE+; Filter Sections: 1; Order Per Filter Section: 8; Program Method: Clock; DatasheetVersion: Rev. 2; PackageVersion: Rev. F, 10/2012; PackageReference: W16+1; PackageDescription: 16-Pin Small-Outline IC, Wide (0.3in) (W16+1), Body 10.3 x 7.5 mm, Pitch 1.27 mm; Supplier 1: Digi-Key; Supplier Part Number 1: MAX294CWE+-ND; Supplier 2: Mouser; Supplier Part Number 2: 700-MAX294CWE; Filter Characteristic: Elliptic; Filter Class: Switched Cap; Filter Type: Lowpass; RoHS: Pb-Free; Mounting Technology: Surface Mount; Code_JEDEC: MS013; ComponentLink1Description: Manufacturer URL; ComponentLink1URL: http://www.maximintegrated.com/; ComponentLink2Description: Datasheet; ComponentLink2URL: http://datasheets.maximintegrated.com/en/ds/MAX293-MAX297.pdf; ComponentLink3Description: Package Specification; ComponentLink3URL: http://pdfserv.maximintegrated.com/package_dwgs/21-0042.PDF
footprint MAXM-W16+1_N (SOIC, 16-Leads, Body 10.3x7.5mm, Pitch 1.27mm, IPC Medium Density)
footprint MAXM-W16+1_L (SOIC, 16-Leads, Body 10.3x7.5mm, Pitch 1.27mm, IPC High Density)
footprint MAXM-W16+1_M (SOIC, 16-Leads, Body 10.3x7.5mm, Pitch 1.27mm, IPC Low Density)
part A pins: 3 CLK "Clock Input. Use internal or external clock.", 4 V- (power) "Negative Supply pin. Dual supplies: -2.375V to -5.500V. Single supplies: V- = 0V.", 5 OP OUT (out) "Uncommitted Op-Amp Output", 6 OP IN- (in) "Inverting Input to the uncommitted op amp. The noninverting op amp is internally tied to ground.", 11 OUT (out) "Filter Output", 12 GND (power) "Ground. In single-supply operation, GND must be biased to the mid-supply voltage level", 13 V+ (power) "Positive Supply pin. Dual supplies:+2.375V to +5.500V. Single supplies: +4.75V to +11.0V.", 14 IN (in) "Filter Input"
part B pins: 1 NC "No Connect", 2 NC "No Connect", 7 NC "No Connect", 8 NC "No Connect", 9 NC "No Connect", 10 NC "No Connect", 15 NC "No Connect", 16 NC "No Connect"

## MAX294CWE+T
designator U?
8th-Order Switched Capacitor Lowpass Filter, Elliptic, 1.2 Transition Ratio, 0 to 70 degC, 16-Pin SOIC (W16+1), Pb-Free, Tape and Reel; Generic Part Number: MAX294; PartNumber: MAX294CWE+T; Filter Sections: 1; Order Per Filter Section: 8; Program Method: Clock; DatasheetVersion: Rev. 2; PackageVersion: Rev. F, 10/2012; PackageReference: W16+1; PackageDescription: 16-Pin Small-Outline IC, Wide (0.3in) (W16+1), Body 10.3 x 7.5 mm, Pitch 1.27 mm; Supplier 1: Digi-Key; Supplier Part Number 1: MAX294CWE+T-ND; Supplier 2: Mouser; Supplier Part Number 2: 700-MAX294CWET; Filter Characteristic: Elliptic; Filter Class: Switched Cap; Filter Type: Lowpass; Packing: Tape and Reel; RoHS: Pb-Free; Mounting Technology: Surface Mount; Code_JEDEC: MS013; ComponentLink1Description: Manufacturer URL; ComponentLink1URL: http://www.maximintegrated.com/; ComponentLink2Description: Datasheet; ComponentLink2URL: http://datasheets.maximintegrated.com/en/ds/MAX293-MAX297.pdf; ComponentLink3Description: Package Specification; ComponentLink3URL: http://pdfserv.maximintegrated.com/package_dwgs/21-0042.PDF
footprint MAXM-W16+1_N (SOIC, 16-Leads, Body 10.3x7.5mm, Pitch 1.27mm, IPC Medium Density)
footprint MAXM-W16+1_L (SOIC, 16-Leads, Body 10.3x7.5mm, Pitch 1.27mm, IPC High Density)
footprint MAXM-W16+1_M (SOIC, 16-Leads, Body 10.3x7.5mm, Pitch 1.27mm, IPC Low Density)
part A pins: 3 CLK "Clock Input. Use internal or external clock.", 4 V- (power) "Negative Supply pin. Dual supplies: -2.375V to -5.500V. Single supplies: V- = 0V.", 5 OP OUT (out) "Uncommitted Op-Amp Output", 6 OP IN- (in) "Inverting Input to the uncommitted op amp. The noninverting op amp is internally tied to ground.", 11 OUT (out) "Filter Output", 12 GND (power) "Ground. In single-supply operation, GND must be biased to the mid-supply voltage level", 13 V+ (power) "Positive Supply pin. Dual supplies:+2.375V to +5.500V. Single supplies: +4.75V to +11.0V.", 14 IN (in) "Filter Input"
part B pins: 1 NC "No Connect", 2 NC "No Connect", 7 NC "No Connect", 8 NC "No Connect", 9 NC "No Connect", 10 NC "No Connect", 15 NC "No Connect", 16 NC "No Connect"

## MAX294CWE-T
designator U?
8th-Order Switched Capacitor Lowpass Filter, Elliptic, 1.2 Transition Ratio, 0 to 70 degC, 16-Pin SOIC (W16-1), Tape and Reel; Generic Part Number: MAX294; PartNumber: MAX294CWE-T; Filter Sections: 1; Order Per Filter Section: 8; Program Method: Clock; DatasheetVersion: Rev. 2; PackageVersion: Rev. F, 10/2012; PackageReference: W16-1; PackageDescription: 16-Pin Small-Outline IC, Wide (0.3in) (W16-1), Body 10.3 x 7.5 mm, Pitch 1.27 mm; Supplier 1: Mouser; Supplier Part Number 1: N/A; Filter Characteristic: Elliptic; Filter Class: Switched Cap; Filter Type: Lowpass; Packing: Tape and Reel; Mounting Technology: Surface Mount; Code_JEDEC: MS013; ComponentLink1Description: Manufacturer URL; ComponentLink1URL: http://www.maximintegrated.com/; ComponentLink2Description: Datasheet; ComponentLink2URL: http://datasheets.maximintegrated.com/en/ds/MAX293-MAX297.pdf; ComponentLink3Description: Package Specification; ComponentLink3URL: http://pdfserv.maximintegrated.com/package_dwgs/21-0042.PDF
footprint MAXM-W16-1_N (SOIC, 16-Leads, Body 10.3x7.5mm, Pitch 1.27mm, IPC Medium Density)
footprint MAXM-W16-1_L (SOIC, 16-Leads, Body 10.3x7.5mm, Pitch 1.27mm, IPC High Density)
footprint MAXM-W16-1_M (SOIC, 16-Leads, Body 10.3x7.5mm, Pitch 1.27mm, IPC Low Density)
part A pins: 3 CLK "Clock Input. Use internal or external clock.", 4 V- (power) "Negative Supply pin. Dual supplies: -2.375V to -5.500V. Single supplies: V- = 0V.", 5 OP OUT (out) "Uncommitted Op-Amp Output", 6 OP IN- (in) "Inverting Input to the uncommitted op amp. The noninverting op amp is internally tied to ground.", 11 OUT (out) "Filter Output", 12 GND (power) "Ground. In single-supply operation, GND must be biased to the mid-supply voltage level", 13 V+ (power) "Positive Supply pin. Dual supplies:+2.375V to +5.500V. Single supplies: +4.75V to +11.0V.", 14 IN (in) "Filter Input"
part B pins: 1 NC "No Connect", 2 NC "No Connect", 7 NC "No Connect", 8 NC "No Connect", 9 NC "No Connect", 10 NC "No Connect", 15 NC "No Connect", 16 NC "No Connect"

## MAX294EPA
designator U?
8th-Order Switched Capacitor Lowpass Filter, Elliptic, 1.2 Transition Ratio, -40 to 85 degC, 8-Pin DIP (P8-2); Generic Part Number: MAX294; PartNumber: MAX294EPA; Filter Sections: 1; Order Per Filter Section: 8; Program Method: Clock; DatasheetVersion: Rev. 2; PackageVersion: Rev. E, 04/2011; PackageReference: P8-2; PackageDescription: 8-Pin Plastic Dual-In-Line, Narrow (0.3in) (P8-2), Body 9.375 x 6.985 mm, Pitch 2.54 mm; Supplier 1: Mouser; Supplier Part Number 1: N/A; Filter Characteristic: Elliptic; Filter Class: Switched Cap; Filter Type: Lowpass; Mounting Technology: Through Hole; Code_JEDEC: MS001-XX; ComponentLink1Description: Manufacturer URL; ComponentLink1URL: http://www.maximintegrated.com/; ComponentLink2Description: Datasheet; ComponentLink2URL: http://datasheets.maximintegrated.com/en/ds/MAX293-MAX297.pdf; ComponentLink3Description: Package Specification; ComponentLink3URL: http://pdfserv.maximintegrated.com/package_dwgs/21-0043.PDF
footprint MAXM-P8-2 (DIP, 8-Leads, Body 9.375x6.985mm, Pitch 2.54mm)
pins: 1 CLK "Clock Input. Use internal or external clock.", 2 V- (power) "Negative Supply pin. Dual supplies: -2.375V to -5.5V. Single supplies: V- = 0V.", 3 OP OUT (out) "Uncommitted Op-Amp Output", 4 OP IN- (in) "Inverting Input to the uncommitted op amp. The noninverting op amp is internally tied to ground.", 5 OUT (out) "Filter Output", 6 GND (power) "Ground. In single-supply operation, GND must be biased to the mid-supply voltage level.", 7 V+ (power) "Positive Supply pin. Dual supplies: +2.375V to +5.5V. Single supplies: +4.75V to +11.0V.", 8 IN (in) "Filter Input"

## MAX294EPA+
designator U?
8th-Order Switched Capacitor Lowpass Filter, Elliptic, 1.2 Transition Ratio, -40 to 85 degC, 8-Pin DIP (P8+2), Pb-Free; Generic Part Number: MAX294; PartNumber: MAX294EPA+; Filter Sections: 1; Order Per Filter Section: 8; Program Method: Clock; DatasheetVersion: Rev. 2; PackageVersion: Rev. E, 04/2011; PackageReference: P8+2; PackageDescription: 8-Pin Plastic Dual-In-Line, Narrow (0.3in) (P8+2), Body 9.375 x 6.985 mm, Pitch 2.54 mm; Supplier 1: Digi-Key; Supplier Part Number 1: MAX294EPA+-ND; Supplier 2: Mouser; Supplier Part Number 2: 700-MAX294EPA; Filter Characteristic: Elliptic; Filter Class: Switched Cap; Filter Type: Lowpass; RoHS: Pb-Free; Mounting Technology: Through Hole; Code_JEDEC: MS001-XX; ComponentLink1Description: Manufacturer URL; ComponentLink1URL: http://www.maximintegrated.com/; ComponentLink2Description: Datasheet; ComponentLink2URL: http://datasheets.maximintegrated.com/en/ds/MAX293-MAX297.pdf; ComponentLink3Description: Package Specification; ComponentLink3URL: http://pdfserv.maximintegrated.com/package_dwgs/21-0043.PDF
footprint MAXM-P8+2 (DIP, 8-Leads, Body 9.375x6.985mm, Pitch 2.54mm)
pins: 1 CLK "Clock Input. Use internal or external clock.", 2 V- (power) "Negative Supply pin. Dual supplies: -2.375V to -5.5V. Single supplies: V- = 0V.", 3 OP OUT (out) "Uncommitted Op-Amp Output", 4 OP IN- (in) "Inverting Input to the uncommitted op amp. The noninverting op amp is internally tied to ground.", 5 OUT (out) "Filter Output", 6 GND (power) "Ground. In single-supply operation, GND must be biased to the mid-supply voltage level.", 7 V+ (power) "Positive Supply pin. Dual supplies: +2.375V to +5.5V. Single supplies: +4.75V to +11.0V.", 8 IN (in) "Filter Input"

## MAX294ESA
designator U?
8th-Order Switched Capacitor Lowpass Filter, Elliptic, 1.2 Transition Ratio, -40 to 85 degC, 8-Pin SOIC (S8-5); Generic Part Number: MAX294; PartNumber: MAX294ESA; Filter Sections: 1; Order Per Filter Section: 8; Program Method: Clock; DatasheetVersion: Rev. 2; PackageVersion: Rev. D, 10/2012; PackageReference: S8-5; PackageDescription: 8-Pin Small-Outline IC, Narrow (0.15in) (S8-5), Body 4.90 x 3.90 mm, Pitch 1.27 mm; Supplier 1: Mouser; Supplier Part Number 1: N/A; Filter Characteristic: Elliptic; Filter Class: Switched Cap; Filter Type: Lowpass; Mounting Technology: Surface Mount; Code_JEDEC: MS012; ComponentLink1Description: Manufacturer URL; ComponentLink1URL: http://www.maximintegrated.com/; ComponentLink2Description: Datasheet; ComponentLink2URL: http://datasheets.maximintegrated.com/en/ds/MAX293-MAX297.pdf; ComponentLink3Description: Package Specification; ComponentLink3URL: http://pdfserv.maximintegrated.com/package_dwgs/21-0041.PDF
footprint MAXM-S8-5_N (SOIC, 8-Leads, Body 4.9x3.9mm, Pitch 1.27mm, IPC Medium Density)
footprint MAXM-S8-5_L (SOIC, 8-Leads, Body 4.9x3.9mm, Pitch 1.27mm, IPC High Density)
footprint MAXM-S8-5_M (SOIC, 8-Leads, Body 4.9x3.9mm, Pitch 1.27mm, IPC Low Density)
pins: 1 CLK "Clock Input. Use internal or external clock.", 2 V- (power) "Negative Supply pin. Dual supplies: -2.375V to -5.5V. Single supplies: V- = 0V.", 3 OP OUT (out) "Uncommitted Op-Amp Output", 4 OP IN- (in) "Inverting Input to the uncommitted op amp. The noninverting op amp is internally tied to ground.", 5 OUT (out) "Filter Output", 6 GND (power) "Ground. In single-supply operation, GND must be biased to the mid-supply voltage level.", 7 V+ (power) "Positive Supply pin. Dual supplies: +2.375V to +5.5V. Single supplies: +4.75V to +11.0V.", 8 IN (in) "Filter Input"

## MAX294ESA+
designator U?
8th-Order Switched Capacitor Lowpass Filter, Elliptic, 1.2 Transition Ratio, -40 to 85 degC, 8-Pin SOIC (S8+5), Pb-Free; Generic Part Number: MAX294; PartNumber: MAX294ESA+; Filter Sections: 1; Order Per Filter Section: 8; Program Method: Clock; DatasheetVersion: Rev. 2; PackageVersion: Rev. D, 10/2012; PackageReference: S8+5; PackageDescription: 8-Pin Small-Outline IC, Narrow (0.15in) (S8+5), Body 4.90 x 3.90 mm, Pitch 1.27 mm; Supplier 1: Digi-Key; Supplier Part Number 1: MAX294ESA+-ND; Supplier 2: Mouser; Supplier Part Number 2: 700-MAX294ESA; Filter Characteristic: Elliptic; Filter Class: Switched Cap; Filter Type: Lowpass; RoHS: Pb-Free; Mounting Technology: Surface Mount; Code_JEDEC: MS012; ComponentLink1Description: Manufacturer URL; ComponentLink1URL: http://www.maximintegrated.com/; ComponentLink2Description: Datasheet; ComponentLink2URL: http://datasheets.maximintegrated.com/en/ds/MAX293-MAX297.pdf; ComponentLink3Description: Package Specification; ComponentLink3URL: http://pdfserv.maximintegrated.com/package_dwgs/21-0041.PDF
footprint MAXM-S8+5_N (SOIC, 8-Leads, Body 4.90x3.90mm, Pitch 1.27mm, IPC Medium Density)
footprint MAXM-S8+5_L (SOIC, 8-Leads, Body 4.90x3.90mm, Pitch 1.27mm, IPC High Density)
footprint MAXM-S8+5_M (SOIC, 8-Leads, Body 4.90x3.90mm, Pitch 1.27mm, IPC Low Density)
pins: 1 CLK "Clock Input. Use internal or external clock.", 2 V- (power) "Negative Supply pin. Dual supplies: -2.375V to -5.5V. Single supplies: V- = 0V.", 3 OP OUT (out) "Uncommitted Op-Amp Output", 4 OP IN- (in) "Inverting Input to the uncommitted op amp. The noninverting op amp is internally tied to ground.", 5 OUT (out) "Filter Output", 6 GND (power) "Ground. In single-supply operation, GND must be biased to the mid-supply voltage level.", 7 V+ (power) "Positive Supply pin. Dual supplies: +2.375V to +5.5V. Single supplies: +4.75V to +11.0V.", 8 IN (in) "Filter Input"